# EAGLE library part M06X2 (library Connectors)
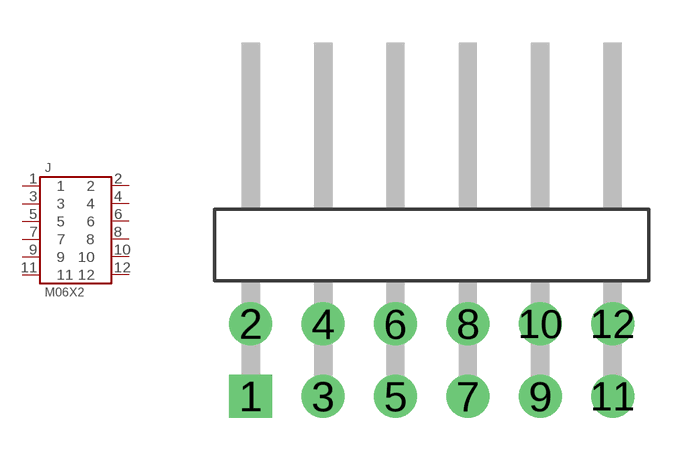
[diagram p25: symbol with the pads of M06X2-PTH-H; footprint M06X2-PTH-H]

Designator prefix J

## M06X2-100MIL-H  [M06X2-PTH-H]
1  1
2  2
3  3
4  4
5  5
6  6
7  7
8  8
9  9
10  10
11  11
12  12

## Footprint M06X2-PTH-H (pad centres in mm)
drill 1 square: 1 -6.35,-1.27
drill 1: 2 -6.35,1.27; 3 -3.81,-1.27; 4 -3.81,1.27; 5 -1.27,-1.27; 6 -1.27,1.27; 7 1.27,-1.27; 8 1.27,1.27; 9 3.81,-1.27; 10 3.81,1.27; 11 6.35,-1.27; 12 6.35,1.27